# Altium footprint library Watch-PcbLib.PcbLib: 9 footprints
Each footprint in its own frame and in the unit in brackets; x right, y up, seen from the top. Pads: shape width x height; smd on the part's side, far side on the other; paste and mask are expansions set on the pad; w line width, h text height; cw(c..) or ccw(c..) is an arc to the next point about the centre after c.
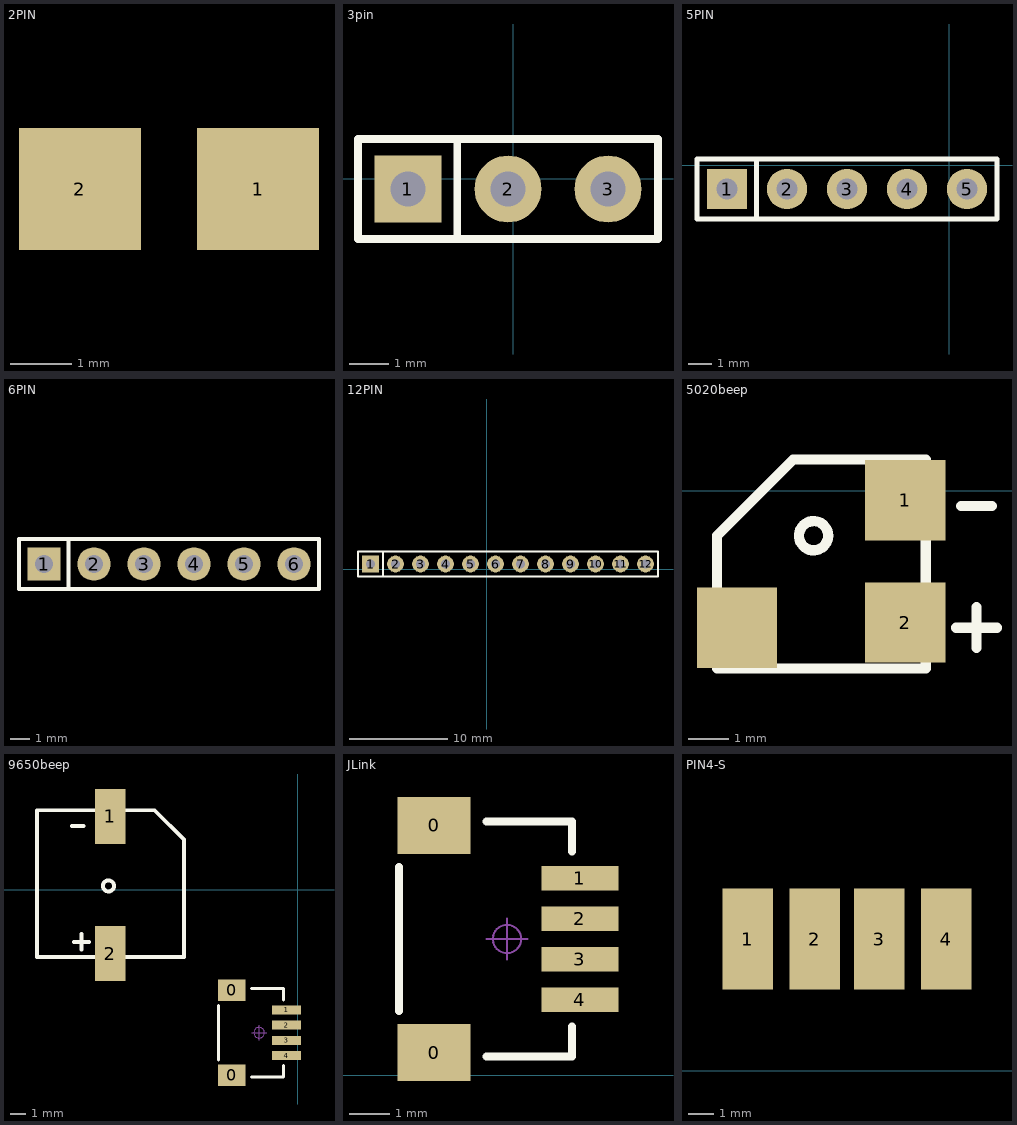
[diagram p0: the footprints below, top view; thin cyan lines are the x and y axes]

## 2PIN [mm]
pads (2):
  rect 2x2 smd: 1(-4.191,6.731) 2(-7.112,6.731)

## 3pin [mm]
pads (3):
  rect 1.7x1.7 hole 0.9: 1(-2.676,-0.261)
  round 1.7 hole 0.9: 2(-0.136,-0.261) 3(2.404,-0.261)
Top Overlay:
  lines w0.2: -2.168,1.009 3.674,1.009 3.674,-1.531 -3.946,-1.531 -3.946,1.009 -2.041,1.009 ; -1.426,-1.511 -1.426,0.989
3D body "HDR2.54-1P.STEP": height 8.5, standoff -3, extent -1.406,-1.531 1.134,1.009
3D body "HDR2.54-1P.STEP": height 8.5, standoff -3, extent -3.946,-1.531 -1.406,1.009
3D body "HDR2.54-1P.STEP": height 8.5, standoff -3, extent 1.134,-1.531 3.674,1.009

## 5PIN [mm]
pads (5):
  rect 1.7x1.7 hole 0.9: 1(-9.398,-1.016)
  round 1.7 hole 0.9: 2(-6.858,-1.016) 3(-4.318,-1.016) 4(-1.778,-1.016) 5(0.762,-1.016)
Top Overlay:
  lines w0.2: -8.148,-2.266 -8.148,0.234 ; -10.668,-2.286 2.032,-2.286 2.032,0.254 -8.763,0.254 -10.668,0.254 -10.668,-2.286
3D body "HDR2.54-1P.STEP": height 8.5, standoff -3, extent -0.508,-2.286 2.032,0.254
3D body "HDR2.54-1P.STEP": height 8.5, standoff -3, extent -5.588,-2.286 -3.048,0.254
3D body "HDR2.54-1P.STEP": height 8.5, standoff -3, extent -3.048,-2.286 -0.508,0.254
3D body "HDR2.54-1P.STEP": height 8.5, standoff -3, extent -10.668,-2.286 -8.128,0.254
3D body "HDR2.54-1P.STEP": height 8.5, standoff -3, extent -8.128,-2.286 -5.588,0.254

## 6PIN [mm]
pads (6):
  rect 1.7x1.7 hole 0.9: 1(-317.373,-38.862)
  round 1.7 hole 0.9: 2(-314.833,-38.862) 3(-312.293,-38.862) 4(-309.753,-38.862) 5(-307.213,-38.862) 6(-304.673,-38.862)
Top Overlay:
  lines w0.2: -316.123,-40.112 -316.123,-37.612 ; -318.643,-40.132 -303.403,-40.132 -303.403,-37.592 -316.738,-37.592 -318.643,-37.592 -318.643,-40.132
3D body "HDR2.54-1P.STEP": height 8.5, standoff -3, extent -305.943,-40.132 -303.403,-37.592
3D body "HDR2.54-1P.STEP": height 8.5, standoff -3, extent -308.483,-40.132 -305.943,-37.592
3D body "HDR2.54-1P.STEP": height 8.5, standoff -3, extent -313.563,-40.132 -311.023,-37.592
3D body "HDR2.54-1P.STEP": height 8.5, standoff -3, extent -311.023,-40.132 -308.483,-37.592
3D body "HDR2.54-1P.STEP": height 8.5, standoff -3, extent -318.643,-40.132 -316.103,-37.592
3D body "HDR2.54-1P.STEP": height 8.5, standoff -3, extent -316.103,-40.132 -313.563,-37.592

## 12PIN [mm]
pads (12):
  rect 1.7x1.7 hole 0.9: 1(-11.811,0.508)
  round 1.7 hole 0.9: 2(-9.271,0.508) 3(-6.731,0.508) 4(-4.191,0.508) 5(-1.651,0.508) 6(0.889,0.508) 7(3.429,0.508) 8(5.969,0.508) 9(8.509,0.508) 10(11.049,0.508) 11(13.589,0.508) 12(16.129,0.508)
Top Overlay:
  lines w0.2: -10.561,-0.742 -10.561,1.758 ; -13.081,-0.762 -13.081,1.778 -11.176,1.778 17.399,1.778 17.399,-0.762 -13.081,-0.762
3D body "HDR2.54-1P.STEP": height 8.5, standoff -3, extent -10.541,-0.762 -8.001,1.778
3D body "HDR2.54-1P.STEP": height 8.5, standoff -3, extent -13.081,-0.762 -10.541,1.778
3D body "HDR2.54-1P.STEP": height 8.5, standoff -3, extent -5.461,-0.762 -2.921,1.778
3D body "HDR2.54-1P.STEP": height 8.5, standoff -3, extent -8.001,-0.762 -5.461,1.778
3D body "HDR2.54-1P.STEP": height 8.5, standoff -3, extent -2.921,-0.762 -0.381,1.778
3D body "HDR2.54-1P.STEP": height 8.5, standoff -3, extent 2.159,-0.762 4.699,1.778
3D body "HDR2.54-1P.STEP": height 8.5, standoff -3, extent -0.381,-0.762 2.159,1.778
3D body "HDR2.54-1P.STEP": height 8.5, standoff -3, extent 7.239,-0.762 9.779,1.778
3D body "HDR2.54-1P.STEP": height 8.5, standoff -3, extent 4.699,-0.762 7.239,1.778
3D body "HDR2.54-1P.STEP": height 8.5, standoff -3, extent 9.779,-0.762 12.319,1.778
3D body "HDR2.54-1P.STEP": height 8.5, standoff -3, extent 14.859,-0.762 17.399,1.778
3D body "HDR2.54-1P.STEP": height 8.5, standoff -3, extent 12.319,-0.762 14.859,1.778

## 5020beep [mm] "5020beep"
pads (3):
  rect 2x2 smd: 1(-12.446,-0.235) 2(-12.446,-3.283) " "(-16.637,-3.41)
Top Overlay:
  circle w0.254: c-14.732,-1.117 r0.364
  lines w0.254: -11.176,-3.41 -10.16,-3.41 ; -11.049,-0.381 -10.287,-0.381 ; -10.668,-3.918 -10.668,-2.902 ; -17.138,-4.426 -17.138,-1.117 -15.24,0.781 -11.938,0.781 -11.938,-4.426 -17.138,-4.426
3D body: height 2, standoff 0, extent -17.145,-4.363 -11.938,0.717
3D body: height 2.01, standoff 0, extent -15.232,-1.616 -14.236,-0.618

## 9650beep [mm] "5020beep"
pads (8):
  rect 1.8x1.4 smd: 0(-4.34,-12.198) 0(-4.34,-6.598)
  rect 2x3.6 smd: 1(-12.319,4.826) 2(-12.319,-4.191)
  rect 1.9x0.6 smd: 1(-0.74,-7.898) 2(-0.74,-8.898) 3(-0.74,-9.898) 4(-0.74,-10.898)
Top Overlay:
  circle w0.254: c-12.446,0.254 r0.364
  lines w0.2: -5.207,-11.176 -5.207,-7.62 ; -3.048,-12.298 -1.04,-12.298 -0.94,-12.298 -0.94,-12.198 -0.94,-11.557 ; -3.048,-6.498 -0.94,-6.498 -0.94,-7.239
  lines w0.254: -17.145,5.226 -9.417,5.226 -7.493,3.302 -7.493,-4.426 ; -17.138,5.226 -17.138,-4.426 -7.538,-4.426 ; -14.859,4.191 -14.097,4.191 ; -14.732,-3.429 -13.716,-3.429 ; -14.224,-3.918 -14.224,-2.902
Mechanical 15:
  circle w0.05: c-2.54,-9.398 r0.35
  lines w0.05: -3.04,-9.398 -2.04,-9.398 ; -2.54,-9.898 -2.54,-8.898
3D body: height 5, standoff 0, extent -17.014,-4.445 -7.369,5.208
3D body: height 5.01, standoff 0, extent -12.946,-0.245 -11.95,0.753
3D body "SM04B-SRSS-TB.STEP": height 2.96, standoff 0, extent -5.334,-12.398 -0.384,-6.398

## JLink [mm]
pads (6):
  rect 1.8x1.4 smd: 0(3.673,0.558) 0(3.673,6.158)
  rect 1.9x0.6 smd: 1(7.273,4.858) 2(7.273,3.858) 3(7.273,2.858) 4(7.273,1.858)
Top Overlay:
  lines w0.2: 2.806,1.58 2.806,5.136 ; 4.965,0.458 6.973,0.458 7.073,0.458 7.073,0.558 7.073,1.199 ; 4.965,6.258 7.073,6.258 7.073,5.517
Mechanical 15:
  circle w0.05: c5.473,3.357 r0.35
  lines w0.05: 4.973,3.357 5.973,3.357 ; 5.473,2.857 5.473,3.857
3D body "SM04B-SRSS-TB.STEP": height 2.96, standoff 0, extent 2.679,0.358 7.629,6.357

## PIN4-S [mm]
pads (4):
  rect 2x4 smd: 1(-60.833,5.207) 2(-58.166,5.207) 3(-55.626,5.207) 4(-52.959,5.207)